# Altium schematic symbol library STM32F103R8T6.SchLib: 1 symbol
Pins are listed as number, name and electrical type; pins without a type are passive.

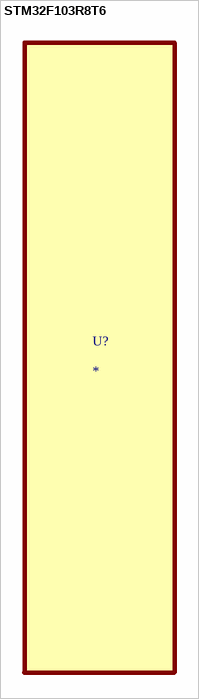
[diagram p0: symbol STM32F103R8T6]

## STM32F103R8T6
designator U?
MP: STM32F103R8T6; MF: {'manufacturer': u'STMicroelectronics'}; Package: None; Availability: Unavailable; Price: None; Value: *